# EAGLE library part HEADER-2X3-B2B-FEMALE (library 4ms-main-parts)
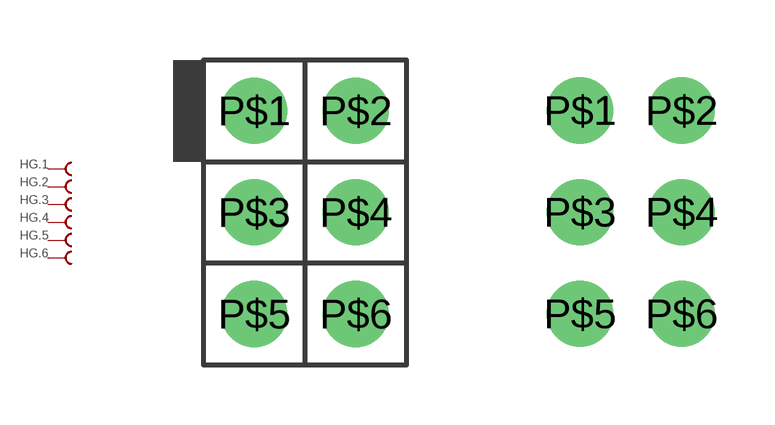
[diagram p7: symbol with the pads of HEADER-2X3-TH; footprints HEADER-2X3-TH, HEADER-2X3-TH-BOTTOM]

Designator prefix H; gates G.1=HEADER-PIN-F G.2=HEADER-PIN-F G.3=HEADER-PIN-F G.4=HEADER-PIN-F G.5=HEADER-PIN-F G.6=HEADER-PIN-F

## HEADER-2X3-B2B-FEMALETH-TOP  [HEADER-2X3-TH]
P$1  G.1:B  pas
P$2  G.2:B  pas
P$3  G.3:B  pas
P$4  G.4:B  pas
P$5  G.5:B  pas
P$6  G.6:B  pas

## HEADER-2X3-B2B-FEMALETH-BOT  [HEADER-2X3-TH-BOTTOM]
Pads as for HEADER-2X3-TH

## Footprint HEADER-2X3-TH (pad centres in mm)
drill 0.9 pad 1.651: P$1 -1.27,2.54; P$2 1.27,2.54; P$3 -1.27,0; P$4 1.27,0; P$5 -1.27,-2.54; P$6 1.27,-2.54

## Footprint HEADER-2X3-TH-BOTTOM (pad centres in mm)
drill 0.9 pad 1.651: P$1 -1.27,2.54; P$2 1.27,2.54; P$3 -1.27,0; P$4 1.27,0; P$5 -1.27,-2.54; P$6 1.27,-2.54